# Altium schematic symbol library TC3_TEST_V2.SchLib: 12 symbols
Pins are listed as number, name and electrical type; pins without a type are passive.

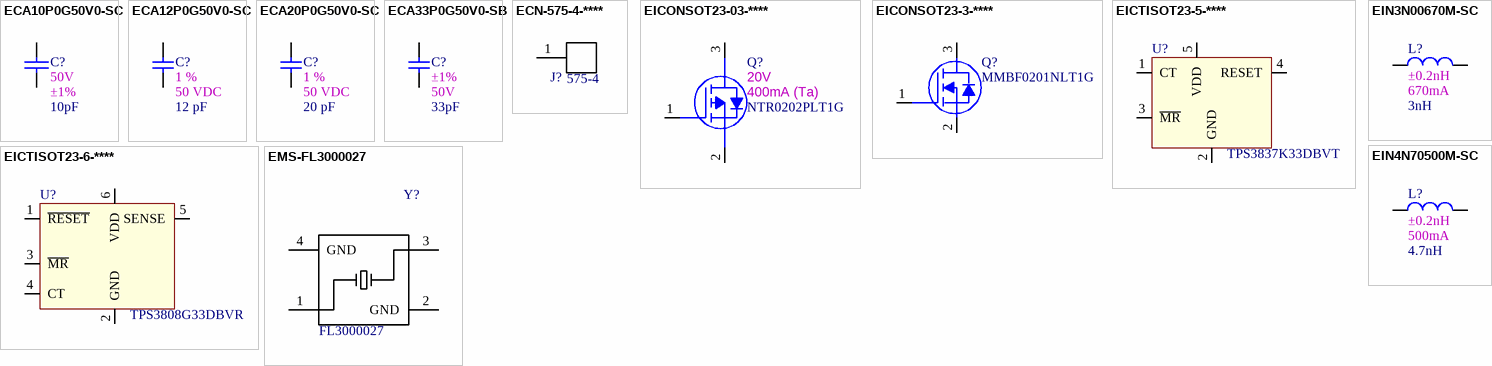
[diagram p0: symbols ECA10P0G50V0-SC to EMS-FL3000027]

## ECA10P0G50V0-SC
designator C?, comment value 10pF  1st Auxiliary Field: 50V  2nd Auxiliary Field: ±1%  (hidden comment: CAP CER RF 10PF 50V 1% C0G 0603)
Manufacturer: KEMET; Vendor Part Number: 399-16138-1-ND; Internal Part Number: ECA10P0G50V0-SC; Manufacturer Part Number: CBR06C100F5GAC; Vendor Name: Digi-Key; 3rd Auxiliary Field: RoHS Compliant; Component Height (mm): 0.87mm; Temp Co: -55°C ~ 125°C; Part Type: CAP CER RF 10PF 50V 1% C0G 0603; 4th Auxiliary Field: *
footprint SMDC0603 (Footprint not found)
pins: 1, 2

## ECA12P0G50V0-SC
designator C?, comment value 12 pF  2nd Auxiliary Field: 1 %  1st Auxiliary Field: 50 VDC  (hidden comment: Multilayer Ceramic Capacitors MLCC - SMD/SMT 50V 12pF C0G 0603 1%)
Manufacturer: KEMET; Vendor Part Number: 80-CBR06C120F5G; Manufacturer Part Number: CBR06C120F5GAC; Internal Part Number: ECA12P0G50V0-SC; Vendor Name: Mouser; 3rd Auxiliary Field: RoHS Compliant; Component Height (mm): 0.8mm; Temp Co: -55°C ~ 125°C; Part Type: Multilayer Ceramic Capacitors MLCC - SMD/SMT 50V 12pF C0G 0603 1%; 4th Auxiliary Field: *
footprint SMDC0603
pins: 1, 2

## ECA20P0G50V0-SC
designator C?, comment value 20 pF  2nd Auxiliary Field: 1 %  1st Auxiliary Field: 50 VDC  (hidden comment: Multilayer Ceramic Capacitors MLCC - SMD/SMT 50V 20pF C0G 0603 1%)
Manufacturer: KEMET; Vendor Part Number: 80-CBR06C200F5G; Manufacturer Part Number: CBR06C200F5GAC; Internal Part Number: ECA20P0G50V0-SC; Vendor Name: Mouser; 3rd Auxiliary Field: RoHS Compliant; Component Height (mm): 0.8mm; Temp Co: -55°C ~ 125°C; Part Type: Multilayer Ceramic Capacitors MLCC - SMD/SMT 50V 20pF C0G 0603 1%; 4th Auxiliary Field: *
footprint SMDC0603
pins: 1, 2

## ECA33P0G50V0-SB
designator C?, comment value 33pF  2nd Auxiliary Field: ±1%  1st Auxiliary Field: 50V  (hidden comment: CAP CER RF 33PF 50V 1% C0G 0402)
Manufacturer: KEMET; Vendor Part Number: 399-16076-1-ND; Manufacturer Part Number: CBR04C330F5GAC; Internal Part Number: ECA33P0G50V0-SB; Vendor Name: Digi-Key; 3rd Auxiliary Field: RoHS Compliant; Component Height (mm): 0.55mm; Temp Co: -55°C ~ 125°C; Part Type: CAP CER RF 33PF 50V 1% C0G 0402; 4th Auxiliary Field: *
footprint SMDC0402 (Footprint not found)
pins: 1, 2

## ECN-575-4-****
designator J?, comment value 575-4  (hidden comment: CONN BANANA JACK SOLDER)
Manufacturer: Keystone Electronics; Vendor Part Number: 36-575-4-ND; Internal Part Number: ECN-575-4-****; Vendor Name: Digi-Key; 3rd Auxiliary Field: RoHS Compliant; Component Height (mm): 2.36mm; 2nd Auxiliary Field: Female; Part Type: CONN BANANA JACK SOLDER; 4th Auxiliary Field: *; Temp Co: *; Manufacturer Part Number: 575-4; 1st Auxiliary Field: Banana Jack
footprint KEYSTONE_575-4
pins: 1

## EICONSOT23-03-****
designator Q?, comment value NTR0202PLT1G  1st Auxiliary Field: 20V  2nd Auxiliary Field: 400mA (Ta)  (hidden comment: MOSFET P-CH 20V 400MA SOT-23)
Internal Part Number: EICONSOT23-03-****; Manufacturer: ON Semiconductor; Vendor Part Number: NTR0202PLT1GOSCT-ND; Temp Co: -55°C ~ 150°C (TJ); 3rd Auxiliary Field: RoHS Compliant; Component Height (mm): 1.11mm; Vendor Name: Digi-Key; Part Type: MOSFET P-CH 20V 400MA SOT-23; 4th Auxiliary Field: *; Manufacturer Part Number: NTR0202PLT1G
footprint SOT95P248X115-3N (Footprint not found)
pins: 1 G, 2 S, 3 D
1 alternate drawing of the same symbol

## EICONSOT23-3-****
designator Q?, comment value MMBF0201NLT1G  (hidden comment: MOSFET N-CH 20V 300MA SOT-23)
Manufacturer: ON Semiconductor; Internal Part Number: EICONSOT23-3-****; Vendor Part Number: MMBF0201NLT1GOSCT-ND; 3rd Auxiliary Field: RoHS Compliant; Component Height (mm): 1.11mm; Vendor Name: Digi-Key; Temp Co: -55°C ~ 150°C (TJ); 2nd Auxiliary Field: 300mA (Ta); Part Type: MOSFET N-CH 20V 300MA SOT-23; 4th Auxiliary Field: *; Manufacturer Part Number: MMBF0201NLT1G; 1st Auxiliary Field: 20V
footprint SOT95P248X115-3N (Footprint not found)
pins: 1 G, 2 S, 3 D

## EICTISOT23-5-****
designator U?, comment value TPS3837K33DBVT  (hidden comment: IC 2.93V NANOPWR MON SOT-23-5)
Internal Part Number: EICTISOT23-5-****; Manufacturer: Texas Instruments; Vendor Part Number: 296-3345-1-ND; 2nd Auxiliary Field: Active High; 3rd Auxiliary Field: RoHS Compliant; Component Height (mm): 1.45mm; Temp Coefficent: -40°C ~ 85°C (TA); Vendor Name: Digi-Key; 1st Auxiliary Field: 2.93V; 4th Auxiliary Field: *; Part Type: IC 2.93V NANOPWR MON SOT-23-5; Manufacturer Part Number: TPS3837K33DBVT
footprint SOT95P280X145-5N (Footprint not found)
pins: 1 CT, 2 GND (power), 3 ~{MR}, 4 RESET, 5 VDD

## EICTISOT23-6-****
designator U?, comment value TPS3808G33DBVR  (hidden comment: IC VOLT SUPERVISOR 3.3V SOT23-6)
Internal Part Number: EICTISOT23-6-****; Manufacturer: Texas Instruments; Vendor Part Number: 296-17195-1-ND; 1st Auxiliary Field: 3.07V; 2nd Auxiliary Field: Active Low; 3rd Auxiliary Field: RoHS Compliant; Component Height (mm): 1.45mm; Temp Coefficent: -40°C ~ 125°C (TJ); Vendor Name: Digi-Key; 4th Auxiliary Field: *; Part Type: IC VOLT SUPERVISOR 3.3V SOT23-6; Manufacturer Part Number: TPS3808G33DBVR
footprint SOT95P280X145-6N (TLV2620IDBVT,IC OPAMP GP 11MHZ RRO SOT23-6)
pins: 1 ~{RESET}, 2 GND (power), 3 ~{MR}, 4 CT, 5 SENSE, 6 VDD (power)

## EIN3N00670M-SC
designator L?, comment value 3nH  2nd Auxiliary Field: ±0.2nH  1st Auxiliary Field: 670mA  (hidden comment: FIXED IND 3NH 670MA 170 MOHM SMD)
Manufacturer: Murata Electronics North America; Vendor Part Number: 490-11771-1-ND; Manufacturer Part Number: LQW18AN3N0C80D; Internal Part Number: EIN3N00670M-SC; Vendor Name: Digi-Key; 3rd Auxiliary Field: 170mOhm Max; Component Height (mm): 1.00mm; Temp Co: -55°C ~ 125°C; Part Type: FIXED IND 3NH 670MA 170 MOHM SMD; 4th Auxiliary Field: *
footprint SMDL0603 (Footprint not found)
pins: 1, 2

## EIN4N70500M-SC
designator L?, comment value 4.7nH  2nd Auxiliary Field: ±0.2nH  1st Auxiliary Field: 500mA  (hidden comment: FIXED IND 4.7NH 500MA 150 MOHM)
Manufacturer: AVX Corporation; Vendor Part Number: 478-4332-1-ND; Manufacturer Part Number: L06034R7CGSTR; Internal Part Number: EIN4N70500M-SC; Vendor Name: Digi-Key; 3rd Auxiliary Field: 150mOhm Max; Component Height (mm): 0.71mm; Temp Co: -55°C ~ 125°C; Part Type: FIXED IND 4.7NH 500MA 150 MOHM; 4th Auxiliary Field: *
footprint SMDL0603 (Footprint not found)
pins: 1, 2

## EMS-FL3000027
designator Y?, comment value FL3000027  (hidden comment: CRYSTAL 30MHZ 20PF SMD)
Manufacturer: Diodes Incorporated; Internal Part Number: EMS-FL3000027; Vendor Part Number: FL3000027CT-ND; 3rd Auxiliary Field: RoHS Compliant; Component Height (mm): 0.75mm; Vendor Name: Digi-Key; Temp Co: -20°C ~ 70°C; 2nd Auxiliary Field: ±10ppm; Part Type: CRYSTAL 30MHZ 20PF SMD; 4th Auxiliary Field: *; Manufacturer Part Number: FL3000027; 1st Auxiliary Field: 30MHz
footprint XTAL330X260X75-4N (Footprint not found)
pins: 1, 2 GND, 3, 4 GND